# Altium footprint library C0402.PcbLib: 1 footprints
Each footprint in its own frame and in the unit in brackets; x right, y up, seen from the top. Pads: shape width x height; smd on the part's side, far side on the other; paste and mask are expansions set on the pad; w line width, h text height; cw(c..) or ccw(c..) is an arc to the next point about the centre after c.
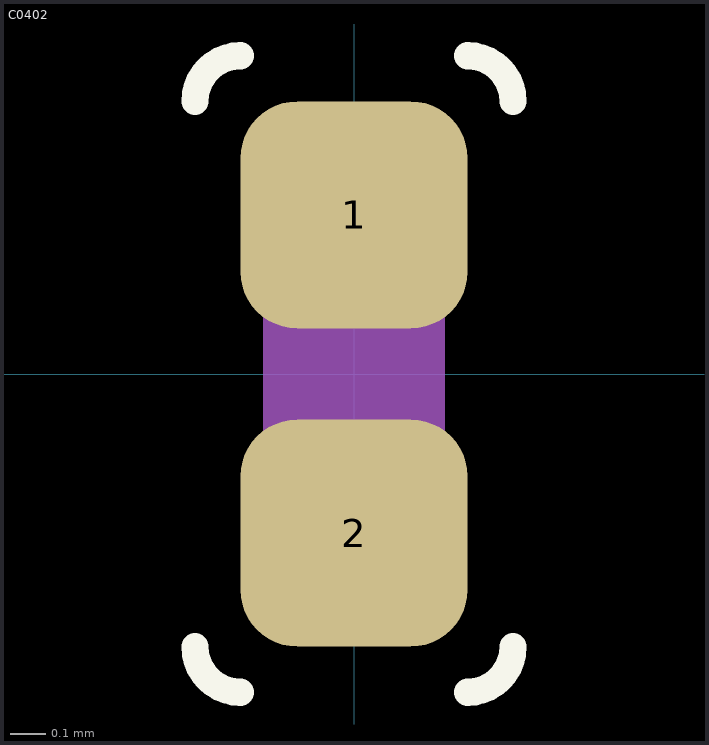
[diagram p0: the footprint, top view; thin cyan lines are the x and y axes]

## C0402 [mil]
pads (2):
  rrect50% 25x25 smd: 1(0,17.5) 2(0,-17.5)
Top Overlay:
  lines w3: -17.5,-30 ccw(c-12.5,-30) -12.5,-35 ; -17.5,30 cw(c-12.5,30) -12.5,35 ; 12.5,-35 ccw(c12.5,-30) 17.5,-30 ; 12.5,35 cw(c12.5,30) 17.5,30
Mechanical 13:
  region: 10,-20 -10,-20 -10,20 10,20
3D body "condensador.STEP": height 9.84, standoff -9.84, extent -11.65,-19.68 10,19.68